# Altium footprint library GRM3195C1H104JA05D.PcbLib: 4 footprints
Each footprint in its own frame and in the unit in brackets; x right, y up, seen from the top. Pads: shape width x height; smd on the part's side, far side on the other; paste and mask are expansions set on the pad; w line width, h text height; cw(c..) or ccw(c..) is an arc to the next point about the centre after c.
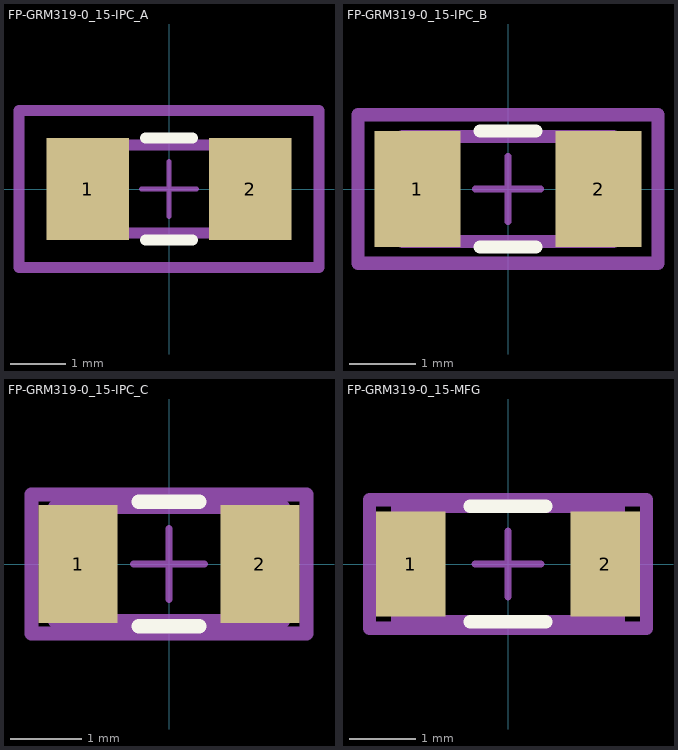
[diagram p0: the footprints below, top view; thin cyan lines are the x and y axes]

## FP-GRM319-0_15-IPC_A [mm]
pads (2):
  rect 1.506x1.858 smd paste+0 mask+0: 1(-1.476,0) 2(1.476,0)
Top Overlay:
  lines w0.2: -0.423,-0.929 0.423,-0.929 ; -0.423,0.929 0.423,0.929
Top Assembly:
  lines w0.2: -2.729,-1.429 2.729,-1.429 2.729,1.429 -2.729,1.429 -2.729,-1.429
  text ".Designator" at 0,0.188 h1
Top 3D Body:
  lines w0.2: -1.6,-0.8 1.6,-0.8 1.6,0.8 -1.6,0.8 -1.6,-0.8
Top Courtyard:
  lines w0.2: -2.729,-1.429 2.729,-1.429 2.729,1.429 -2.729,1.429 -2.729,-1.429
Top Component Center:
  lines w0.1: -0.5,0 0.5,0 ; 0,-0.5 0,0.5
3D body "Cap_Murata_GRM3195C1H273JA01D_eec.STEP": height 0.25, standoff 0, extent -2.729,-1.429 2.729,1.429

## FP-GRM319-0_15-IPC_B [mm]
pads (2):
  rect 1.306x1.758 smd paste+0 mask+0: 1(-1.376,0) 2(1.376,0)
Top Overlay:
  lines w0.2: -0.423,-0.879 0.423,-0.879 ; -0.423,0.879 0.423,0.879
Top Assembly:
  lines w0.2: -2.279,-1.129 2.279,-1.129 2.279,1.129 -2.279,1.129 -2.279,-1.129
  text ".Designator" at 0,0.188 h1
Top 3D Body:
  lines w0.2: -1.6,-0.8 1.6,-0.8 1.6,0.8 -1.6,0.8 -1.6,-0.8
Top Courtyard:
  lines w0.2: -2.279,-1.129 2.279,-1.129 2.279,1.129 -2.279,1.129 -2.279,-1.129
Top Component Center:
  lines w0.1: -0.5,0 0.5,0 ; 0,-0.5 0,0.5
3D body "Cap_Murata_GRM3195C1H273JA01D_eec.STEP": height 0.25, standoff 0, extent -2.279,-1.129 2.279,1.129

## FP-GRM319-0_15-IPC_C [mm]
pads (2):
  rect 1.106x1.658 smd paste+0 mask+0: 1(-1.276,0) 2(1.276,0)
Top Overlay:
  lines w0.2: -0.423,-0.875 0.423,-0.875 ; -0.423,0.875 0.423,0.875
Top Assembly:
  lines w0.2: -1.929,-0.975 1.929,-0.975 1.929,0.975 -1.929,0.975 -1.929,-0.975
  text ".Designator" at 0,0.188 h1
Top 3D Body:
  lines w0.2: -1.6,-0.8 1.6,-0.8 1.6,0.8 -1.6,0.8 -1.6,-0.8
Top Courtyard:
  lines w0.2: -1.929,-0.975 1.929,-0.975 1.929,0.975 -1.929,0.975 -1.929,-0.975
Top Component Center:
  lines w0.1: -0.5,0 0.5,0 ; 0,-0.5 0,0.5
3D body "Cap_Murata_GRM3195C1H273JA01D_eec.STEP": height 0.25, standoff 0, extent -1.929,-0.975 1.929,0.975

## FP-GRM319-0_15-MFG [mm]
pads (2):
  rect 1.05x1.6 smd paste+0 mask+0: 1(-1.475,0) 2(1.475,0)
Top Overlay:
  lines w0.2: -0.575,-0.875 0.575,-0.875 ; -0.575,0.875 0.575,0.875
Top Assembly:
  lines w0.2: -2.1,-0.975 2.1,-0.975 2.1,0.975 -2.1,0.975 -2.1,-0.975
  text ".Designator" at 0,0.188 h1
Top 3D Body:
  lines w0.2: -1.675,-0.875 1.675,-0.875 1.675,0.875 -1.675,0.875 -1.675,-0.875
Top Courtyard:
  lines w0.2: -2.1,-0.975 2.1,-0.975 2.1,0.975 -2.1,0.975 -2.1,-0.975
Top Component Center:
  lines w0.1: -0.5,0 0.5,0 ; 0,-0.5 0,0.5
3D body "Cap_Murata_GRM3195C1H273JA01D_eec.STEP": height 0.25, standoff 0, extent -2.1,-0.975 2.1,0.975